# Altium footprint library keyswitches.pretty-2.PcbLib: 19 footprints (part 1 of 2)
Each footprint in its own frame and in the unit in brackets; x right, y up, seen from the top. Pads: shape width x height; smd on the part's side, far side on the other; paste and mask are expansions set on the pad; w line width, h text height; cw(c..) or ccw(c..) is an arc to the next point about the centre after c.
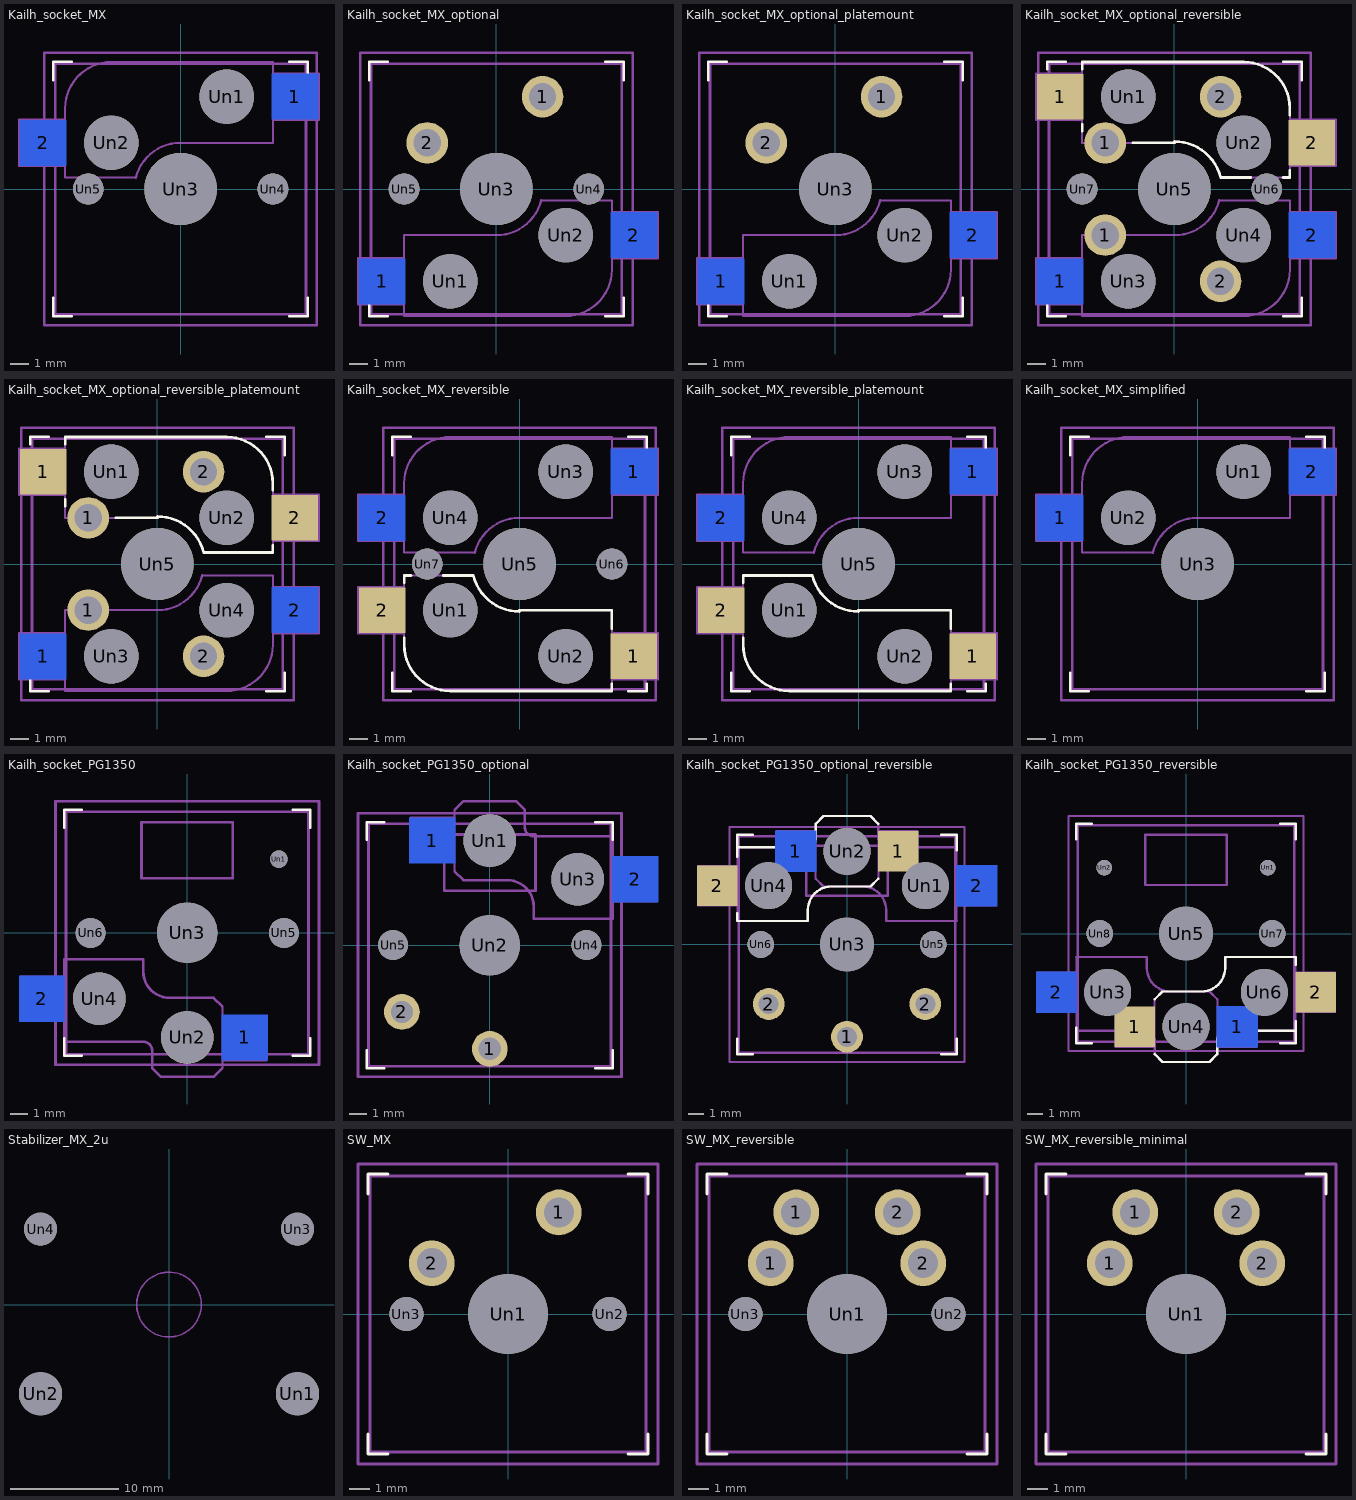
[diagram p0: the footprints below, top view; thin cyan lines are the x and y axes]

## Kailh_socket_MX [mm]
pads (7):
  rect 2.55x2.5 smd far side: 1(6.29,5.08) 2(-7.56,2.54)
  round 3 hole 3: Un1(2.54,5.08) Un2(-3.81,2.54)
  round 3.988 hole 3.988: Un3(0,0)
  round 1.702 hole 1.702: Un4(5.08,0) Un5(-5.08,0)
F.SilkS:
  lines w0.15: -7,-6 -7,-7 -6,-7 ; -7,6 -7,7 -6,7 ; 6,-7 7,-7 7,-6 ; 6,7 7,7 7,6
B.SilkS:
  lines w0.15: -6.35,1.016 -6.35,0.635 -5.969,0.635 ; -6.35,4.064 -6.35,4.445 cw(c-3.81,4.445) -3.81,6.985 5.08,6.985 5.08,6.604 ; -4.191,0.635 -2.464,0.635 ; -2.464,0.616 cw(c0,0) 0,2.54 5.08,2.54 5.08,3.556
B.Fab:
  lines w0.12: -6.35,1.27 -8.89,1.27 -8.89,3.81 -6.35,3.81 ; -2.54,0.635 -6.35,0.635 -6.35,4.445 cw(c-3.81,4.445) -3.81,6.985 5.08,6.985 5.08,2.54 0,2.54 ccw(c0,0) -2.464,0.616 ; 5.08,3.81 7.62,3.81 7.62,6.35 5.08,6.35
  text "'.Comment'" at 0.652,-0.937 h1
F.Fab:
  lines w0.15: -7.5,-7.5 7.5,-7.5 7.5,7.5 -7.5,7.5 -7.5,-7.5
Eco2.User:
  lines w0.15: -6.9,-6.9 6.9,-6.9 6.9,6.9 -6.9,6.9 -6.9,-6.9
3D body "Kailh Polia.step": height 15.25, standoff -3.3, extent -6.975,-7.823 6.975,7.777
3D body "Kaihl CPG151101S11.step": height 0.66, standoff -2.39, extent -7.69,0.865 6.45,6.755

## Kailh_socket_MX_optional [mil]
pads (9):
  rect 100.39x98.43 smd far side: 1(-247.64,-200) 2(297.64,-100)
  round 90 hole 59: 1(100,200) 2(-150,100)
  round 118.11 hole 118.11: Un1(-100,-200) Un2(150,-100)
  round 157 hole 157: Un3(0,0)
  round 67 hole 67: Un4(200,0) Un5(-200,0)
F.SilkS:
  lines w5.91: -275.59,-236.22 -275.59,-275.59 -236.22,-275.59 ; -275.59,236.22 -275.59,275.59 -236.22,275.59 ; 236.22,-275.59 275.59,-275.59 275.59,-236.22 ; 236.22,275.59 275.59,275.59 275.59,236.22
B.SilkS:
  lines w5.91: -200,-260 -200,-275 150,-275 ccw(c150,-175) 250,-175 250,-160 ; -200,-140 -200,-100 0,-100 ccw(c0,0) 97.01,-24.25 ; 100,-25 165,-25 ; 235,-25 250,-25 250,-40
  text "'.Designator'" at 206.64,-340.69 h39.37
B.Fab:
  lines w4.72: -200,-250 -300,-250 -300,-150 -200,-150 ; 97.01,-24.25 cw(c0,0) 0,-100 -200,-100 -200,-275 150,-275 ccw(c150,-175) 250,-175 250,-25 100,-25 ; 250,-150 350,-150 350,-50 250,-50
  text "'.Designator'" at 131.64,-215.69 h39.37
  text "'.Comment'" at 50.67,-336.88 h39.37
F.Fab:
  lines w5.91: -295.28,-295.28 295.28,-295.28 295.28,295.28 -295.28,295.28 -295.28,-295.28
  text "'.Designator'" at -56.64,-15.69 h39.37
Eco2.User:
  lines w5.91: -271.65,-271.65 271.65,-271.65 271.65,271.65 -271.65,271.65 -271.65,-271.65

## Kailh_socket_MX_optional_platemount [mm]
pads (7):
  rect 2.55x2.5 smd far side: 1(-6.29,-5.08) 2(7.56,-2.54)
  round 2.286 hole 1.499: 1(2.54,5.08) 2(-3.81,2.54)
  round 3 hole 3: Un1(-2.54,-5.08) Un2(3.81,-2.54)
  round 3.988 hole 3.988: Un3(0,0)
F.SilkS:
  lines w0.15: -7,-6 -7,-7 -6,-7 ; -7,6 -7,7 -6,7 ; 6,-7 7,-7 7,-6 ; 6,7 7,7 7,6
B.SilkS:
  lines w0.15: -5.08,-6.604 -5.08,-6.985 3.81,-6.985 ccw(c3.81,-4.445) 6.35,-4.445 6.35,-4.064 ; -5.08,-3.556 -5.08,-2.54 0,-2.54 ccw(c0,0) 2.464,-0.616 ; 2.5,-0.635 6.35,-0.635 6.35,-1.016
  text "'.Designator'" at 5.249,-8.653 h1
B.Fab:
  lines w0.12: -5.08,-6.35 -7.62,-6.35 -7.62,-3.81 -5.08,-3.81 ; 2.464,-0.616 cw(c0,0) 0,-2.54 -5.08,-2.54 -5.08,-6.985 3.81,-6.985 ccw(c3.81,-4.445) 6.35,-4.445 6.35,-0.635 2.54,-0.635 ; 6.35,-3.81 8.89,-3.81 8.89,-1.27 6.35,-1.27
  text "'.Designator'" at 3.344,-5.478 h1
  text "'.Comment'" at 1.287,-8.557 h1
F.Fab:
  lines w0.15: -7.5,-7.5 7.5,-7.5 7.5,7.5 -7.5,7.5 -7.5,-7.5
  text "'.Designator'" at -1.439,-0.398 h1
Eco2.User:
  lines w0.15: -6.9,-6.9 6.9,-6.9 6.9,6.9 -6.9,6.9 -6.9,-6.9

## Kailh_socket_MX_optional_reversible [mm]
pads (15):
  rect 2.55x2.5 smd far side: 1(-6.29,-5.08) 2(7.56,-2.54)
  rect 2.55x2.5 smd: 1(-6.29,5.08) 2(7.56,2.54)
  round 2.286 hole 1.499: 1(-3.81,-2.54) 1(-3.81,2.54) 2(2.54,-5.08) 2(2.54,5.08)
  round 3 hole 3: Un1(-2.54,5.08) Un2(3.81,2.54) Un3(-2.54,-5.08) Un4(3.81,-2.54)
  round 3.988 hole 3.988: Un5(0,0)
  round 1.702 hole 1.702: Un6(5.08,0) Un7(-5.08,0)
F.SilkS:
  lines w0.15: -7,-6 -7,-7 -6,-7 ; -7,6.604 -7,7 -6,7 ; -5.08,3.175 -5.08,3.556 ; -5.08,6.604 -5.08,6.985 3.81,6.985 cw(c3.81,4.445) 6.35,4.445 6.35,4.064 ; -2.286,2.54 0,2.54 ; 0,2.618 cw(c0,0) 2.54,0.635 4.191,0.635 ; 5.969,0.635 6.35,0.635 6.35,1.016 ; 6,-7 7,-7 7,-6 ; 6,7 7,7 7,6
B.SilkS:
  lines w0.15: -7,-6.604 -7,-7 -6,-7 ; -7,6 -7,7 -6,7 ; -5.08,-6.604 -5.08,-6.985 3.81,-6.985 ccw(c3.81,-4.445) 6.35,-4.445 6.35,-4.064 ; -5.08,-3.556 -5.08,-3.175 ; -2.286,-2.54 0,-2.54 ccw(c0,0) 2.464,-0.616 ; 2.54,-0.635 4.191,-0.635 ; 5.969,-0.635 6.35,-0.635 6.35,-1.016 ; 6,-7 7,-7 7,-6 ; 6,7 7,7 7,6
  text "'.Designator'" at 1.439,7.857 h1
B.Fab:
  lines w0.12: -5.08,-6.35 -7.62,-6.35 -7.62,-3.81 -5.08,-3.81 ; 2.464,-0.616 cw(c0,0) 0,-2.54 -5.08,-2.54 -5.08,-6.985 3.81,-6.985 ccw(c3.81,-4.445) 6.35,-4.445 6.35,-0.635 2.54,-0.635 ; 6.35,-3.81 8.89,-3.81 8.89,-1.27 6.35,-1.27
  lines w0.15: -7.5,-7.5 7.5,-7.5 7.5,7.5 -7.5,7.5 -7.5,-7.5
  text "'.Designator'" at 1.439,-5.478 h1
  text "'.Comment'" at 1.287,-8.557 h1
F.Fab:
  lines w0.12: -5.08,3.81 -7.62,3.81 -7.62,6.35 -5.08,6.35 ; 0,2.54 -5.08,2.54 -5.08,6.985 3.81,6.985 cw(c3.81,4.445) 6.35,4.445 6.35,0.635 2.54,0.635 ccw(c0,0) 0,2.618 ; 6.35,1.27 8.89,1.27 8.89,3.81 6.35,3.81
  lines w0.15: -7.5,-7.5 -7.5,7.5 7.5,7.5 7.5,-7.5 -7.5,-7.5
  text "'.Designator'" at -0.804,4.047 h1
Eco2.User:
  lines w0.15: -6.9,-6.9 6.9,-6.9 6.9,6.9 -6.9,6.9 -6.9,-6.9

## Kailh_socket_MX_optional_reversible_platemount [mm]
pads (13):
  rect 2.55x2.5 smd far side: 1(-6.29,-5.08) 2(7.56,-2.54)
  rect 2.55x2.5 smd: 1(-6.29,5.08) 2(7.56,2.54)
  round 2.286 hole 1.499: 1(-3.81,-2.54) 1(-3.81,2.54) 2(2.54,-5.08) 2(2.54,5.08)
  round 3 hole 3: Un1(-2.54,5.08) Un2(3.81,2.54) Un3(-2.54,-5.08) Un4(3.81,-2.54)
  round 3.988 hole 3.988: Un5(0,0)
F.SilkS:
  lines w0.15: -7,-6 -7,-7 -6,-7 ; -7,6.604 -7,7 -6,7 ; -5.08,3.175 -5.08,3.556 ; -5.08,6.604 -5.08,6.985 3.81,6.985 cw(c3.81,4.445) 6.35,4.445 6.35,4.064 ; -2.286,2.54 0,2.54 ; 0,2.618 cw(c0,0) 2.54,0.635 6.35,0.635 ; 5.969,0.635 6.35,0.635 ; 6,-7 7,-7 7,-6 ; 6,7 7,7 7,6 ; 6.35,1.016 6.35,0.635
B.SilkS:
  lines w0.15: -7,-6.604 -7,-7 -6,-7 ; -7,6 -7,7 -6,7 ; -5.08,-6.604 -5.08,-6.985 3.81,-6.985 ccw(c3.81,-4.445) 6.35,-4.445 6.35,-4.064 ; -5.08,-3.556 -5.08,-3.175 ; -2.286,-2.54 0,-2.54 ccw(c0,0) 2.464,-0.616 ; 2.54,-0.635 6.35,-0.635 ; 5.969,-0.635 6.35,-0.635 ; 6,-7 7,-7 7,-6 ; 6,7 7,7 7,6 ; 6.35,-1.016 6.35,-0.635
  text "'.Designator'" at 1.439,7.857 h1
B.Fab:
  lines w0.12: -5.08,-6.35 -7.62,-6.35 -7.62,-3.81 -5.08,-3.81 ; 2.464,-0.616 cw(c0,0) 0,-2.54 -5.08,-2.54 -5.08,-6.985 3.81,-6.985 ccw(c3.81,-4.445) 6.35,-4.445 6.35,-0.635 2.54,-0.635 ; 6.35,-3.81 8.89,-3.81 8.89,-1.27 6.35,-1.27
  lines w0.15: -7.5,-7.5 7.5,-7.5 7.5,7.5 -7.5,7.5 -7.5,-7.5
  text "'.Designator'" at 1.439,-5.478 h1
  text "'.Comment'" at 1.287,-8.557 h1
F.Fab:
  lines w0.12: -5.08,3.81 -7.62,3.81 -7.62,6.35 -5.08,6.35 ; 0,2.54 -5.08,2.54 -5.08,6.985 3.81,6.985 cw(c3.81,4.445) 6.35,4.445 6.35,0.635 2.54,0.635 ccw(c0,0) 0,2.618 ; 6.35,1.27 8.89,1.27 8.89,3.81 6.35,3.81
  lines w0.15: -7.5,-7.5 -7.5,7.5 7.5,7.5 7.5,-7.5 -7.5,-7.5
  text "'.Designator'" at -0.804,4.047 h1
Eco2.User:
  lines w0.15: -6.9,-6.9 6.9,-6.9 6.9,6.9 -6.9,6.9 -6.9,-6.9

## Kailh_socket_MX_reversible [mm]
pads (11):
  rect 2.55x2.5 smd: 1(6.29,-5.08) 2(-7.56,-2.54)
  rect 2.55x2.5 smd far side: 1(6.29,5.08) 2(-7.56,2.54)
  round 3 hole 3: Un1(-3.81,-2.54) Un2(2.54,-5.08) Un3(2.54,5.08) Un4(-3.81,2.54)
  round 3.988 hole 3.988: Un5(0,0)
  round 1.702 hole 1.702: Un6(5.08,0) Un7(-5.08,0)
F.SilkS:
  lines w0.15: -7,-6 -7,-7 -6,-7 ; -7,6 -7,7 -6,7 ; -6.35,-4.064 -6.35,-4.445 ccw(c-3.81,-4.445) -3.81,-6.985 5.08,-6.985 5.08,-6.604 ; -6.35,-1.016 -6.35,-0.635 -5.969,-0.635 ; -4.191,-0.635 -2.54,-0.635 ccw(c0,0) 0,-2.618 ; 0,-2.54 5.08,-2.54 5.08,-3.556 ; 6,-7 7,-7 7,-6.604 ; 6,7 7,7 7,6
B.SilkS:
  lines w0.15: -7,-6 -7,-7 -6,-7 ; -7,6 -7,7 -6,7 ; -6.35,1.016 -6.35,0.635 -5.969,0.635 ; -6.35,4.064 -6.35,4.445 cw(c-3.81,4.445) -3.81,6.985 5.08,6.985 5.08,6.604 ; -4.191,0.635 -2.54,0.635 ; -2.461,0.628 cw(c0,0) 0,2.54 5.08,2.54 5.08,3.556 ; 6,-7 7,-7 7,-6 ; 6,7 7,7 7,6.604
  text "'.Designator'" at 1.439,7.857 h1
B.Fab:
  lines w0.12: -6.35,1.27 -8.89,1.27 -8.89,3.81 -6.35,3.81 ; -2.54,0.635 -6.35,0.635 -6.35,4.445 cw(c-3.81,4.445) -3.81,6.985 5.08,6.985 5.08,2.54 0,2.54 ccw(c0,0) -2.464,0.616 ; 5.08,3.81 7.62,3.81 7.62,6.35 5.08,6.35
  lines w0.15: -7.5,-7.5 7.5,-7.5 7.5,7.5 -7.5,7.5 -7.5,-7.5
  text "'.Comment'" at 1.287,-8.557 h1
  text "'.Designator'" at 0.169,4.682 h1
F.Fab:
  lines w0.12: -6.35,-3.81 -8.89,-3.81 -8.89,-1.27 -6.35,-1.27 ; 0,-2.618 cw(c0,0) -2.54,-0.635 -6.35,-0.635 -6.35,-4.445 ccw(c-3.81,-4.445) -3.81,-6.985 5.08,-6.985 5.08,-2.54 0,-2.54 ; 5.08,-6.35 7.62,-6.35 7.62,-3.81 5.08,-3.81
  lines w0.15: -7.5,-7.5 -7.5,7.5 7.5,7.5 7.5,-7.5 -7.5,-7.5
  text "'.Designator'" at -2.709,-5.478 h1
Eco2.User:
  lines w0.15: -6.9,-6.9 6.9,-6.9 6.9,6.9 -6.9,6.9 -6.9,-6.9

## Kailh_socket_MX_reversible_platemount [mm]
pads (9):
  rect 2.55x2.5 smd: 1(6.29,-5.08) 2(-7.56,-2.54)
  rect 2.55x2.5 smd far side: 1(6.29,5.08) 2(-7.56,2.54)
  round 3 hole 3: Un1(-3.81,-2.54) Un2(2.54,-5.08) Un3(2.54,5.08) Un4(-3.81,2.54)
  round 3.988 hole 3.988: Un5(0,0)
F.SilkS:
  lines w0.15: -7,-6 -7,-7 -6,-7 ; -7,6 -7,7 -6,7 ; -6.35,-4.064 -6.35,-4.445 ccw(c-3.81,-4.445) -3.81,-6.985 5.08,-6.985 5.08,-6.604 ; -6.35,-1.016 -6.35,-0.635 ; -5.969,-0.635 -6.35,-0.635 ; 0,-2.618 cw(c0,0) -2.54,-0.635 -6.35,-0.635 ; 0,-2.54 5.08,-2.54 5.08,-3.556 ; 6,-7 7,-7 7,-6.604 ; 6,7 7,7 7,6
B.SilkS:
  lines w0.15: -7,-6 -7,-7 -6,-7 ; -7,6 -7,7 -6,7 ; -6.35,1.016 -6.35,0.635 ; -6.35,4.064 -6.35,4.445 cw(c-3.81,4.445) -3.81,6.985 5.08,6.985 5.08,6.604 ; -5.969,0.635 -6.35,0.635 ; -2.54,0.635 -6.35,0.635 ; -2.461,0.628 cw(c0,0) 0,2.54 5.08,2.54 5.08,3.556 ; 6,-7 7,-7 7,-6 ; 6,7 7,7 7,6.604
  text "'.Designator'" at 1.439,7.857 h1
B.Fab:
  lines w0.12: -6.35,1.27 -8.89,1.27 -8.89,3.81 -6.35,3.81 ; -2.54,0.635 -6.35,0.635 -6.35,4.445 cw(c-3.81,4.445) -3.81,6.985 5.08,6.985 5.08,2.54 0,2.54 ccw(c0,0) -2.464,0.616 ; 5.08,3.81 7.62,3.81 7.62,6.35 5.08,6.35
  lines w0.15: -7.5,-7.5 7.5,-7.5 7.5,7.5 -7.5,7.5 -7.5,-7.5
  text "'.Comment'" at 1.287,-8.557 h1
  text "'.Designator'" at 0.169,4.682 h1
F.Fab:
  lines w0.12: -6.35,-3.81 -8.89,-3.81 -8.89,-1.27 -6.35,-1.27 ; 0,-2.618 cw(c0,0) -2.54,-0.635 -6.35,-0.635 -6.35,-4.445 ccw(c-3.81,-4.445) -3.81,-6.985 5.08,-6.985 5.08,-2.54 0,-2.54 ; 5.08,-6.35 7.62,-6.35 7.62,-3.81 5.08,-3.81
  lines w0.15: -7.5,-7.5 -7.5,7.5 7.5,7.5 7.5,-7.5 -7.5,-7.5
  text "'.Designator'" at -2.709,-5.478 h1
Eco2.User:
  lines w0.15: -6.9,-6.9 6.9,-6.9 6.9,6.9 -6.9,6.9 -6.9,-6.9

## Kailh_socket_MX_simplified [mm]
pads (5):
  rect 2.55x2.5 smd far side: 1(-7.56,2.54) 2(6.29,5.08)
  round 3 hole 3: Un1(2.54,5.08) Un2(-3.81,2.54)
  round 3.988 hole 3.988: Un3(0,0)
F.SilkS:
  lines w0.15: -7,-6 -7,-7 -6,-7 ; -7,6 -7,7 -6,7 ; 6,-7 7,-7 7,-6 ; 6,7 7,7 7,6
B.SilkS:
  lines w0.15: -6.35,1.016 -6.35,0.635 -5.969,0.635 -2.464,0.635 ; -6.35,4.064 -6.35,4.445 cw(c-3.81,4.445) -3.81,6.985 5.08,6.985 5.08,6.604 ; -2.464,0.616 cw(c0,0) 0,2.54 5.08,2.54 5.08,3.556
B.Fab:
  lines w0.12: -6.35,1.27 -8.89,1.27 -8.89,3.81 -6.35,3.81 ; -2.54,0.635 -6.35,0.635 -6.35,4.445 cw(c-3.81,4.445) -3.81,6.985 5.08,6.985 5.08,2.54 0,2.54 ccw(c0,0) -2.464,0.616 ; 5.08,3.81 7.62,3.81 7.62,6.35 5.08,6.35
  text "'.Designator'" at 0.804,4.047 h1
  text "'.Comment'" at 0.652,-0.937 h1
F.Fab:
  lines w0.15: -7.5,-7.5 7.5,-7.5 7.5,7.5 -7.5,7.5 -7.5,-7.5
Eco2.User:
  lines w0.15: -6.9,-6.9 6.9,-6.9 6.9,6.9 -6.9,6.9 -6.9,-6.9

## Kailh_socket_PG1350 [mm]
pads (8):
  rect 2.6x2.6 smd far side: 1(3.275,-5.95) 2(-8.275,-3.75)
  round 0.991 hole 0.991: Un1(5.22,4.2)
  round 3 hole 3: Un2(0,-5.95) Un4(-5,-3.75)
  round 3.429 hole 3.429: Un3(0,0)
  round 1.702 hole 1.702: Un5(5.5,0) Un6(-5.5,0)
F.SilkS:
  lines w0.15: -7,-6 -7,-7 -6,-7 ; -7,6 -7,7 -6,7 ; 6,7 7,7 7,6 ; 7,-6 7,-7 ; 7,-7 6,-7 7,-7
B.SilkS:
  lines w0.15: -7,-5.6 -7,-6.2 -2.5,-6.2 cw(c-2.5,-6.7) -2,-6.7 -2,-7.7 -1.5,-8.2 1.5,-8.2 2,-7.7 ; -7,-2 -7,-1.5 -2.5,-1.5 -2.5,-2.2 ccw(c-1,-2.2) -1,-3.7 1.5,-3.7 2,-4.2
B.Fab:
  lines w0.12: -7,-6.2 -7,-1.5 ; -7,-5 -9.5,-5 -9.5,-2.5 -7,-2.5 ; 2,-7.7 2,-4.25 ; 2,-7.25 4.5,-7.25 4.5,-4.75 2,-4.75
  lines w0.15: -7,-6.2 -2.5,-6.2 cw(c-2.5,-6.7) -2,-6.7 -2,-7.7 -1.5,-8.2 1.5,-8.2 2,-7.7 ; -7,-1.5 -2.5,-1.5 -2.5,-2.2 ccw(c-1,-2.2) -1,-3.7 1.5,-3.7 2,-4.2
  text "'.Comment'" at 0.287,-9.302 h1
  text "'.Designator'" at -1.561,-5.398 h1
F.Fab:
  lines w0.15: -7.5,-7.5 7.5,-7.5 7.5,7.5 -7.5,7.5 -7.5,-7.5
Eco2.User:
  lines w0.15: -6.9,-6.9 6.9,-6.9 6.9,6.9 -6.9,6.9 -6.9,-6.9 ; -2.6,3.1 2.6,3.1 2.6,6.3 -2.6,6.3 -2.6,3.1

## Kailh_socket_PG1350_optional [mm]
pads (9):
  rect 2.6x2.6 smd far side: 1(-3.275,5.95) 2(8.275,3.75)
  round 2.032 hole 1.27: 1(0,-5.9) 2(-5,-3.8)
  round 3 hole 3: Un1(0,5.95) Un3(5,3.75)
  round 3.429 hole 3.429: Un2(0,0)
  round 1.702 hole 1.702: Un4(5.5,0) Un5(-5.5,0)
F.SilkS:
  lines w0.15: -7,-6 -7,-7 -6,-7 ; -7,6 -7,7 -6,7 ; 6,-7 7,-7 7,-6 ; 6,7 7,7 7,6
B.SilkS:
  lines w0.15: -2,4.2 -1.5,3.7 1,3.7 cw(c1,2.2) 2.5,2.2 2.5,1.5 7,1.5 7,2 ; -2,7.7 -1.5,8.2 1.5,8.2 2,7.7 2,6.7 ccw(c2.5,6.7) 2.5,6.2 7,6.2 7,5.6
  text "'.Designator'" at 5.884,7.222 h1
B.Fab:
  lines w0.12: -2,4.25 -2,7.7 ; -2,4.75 -4.5,4.75 -4.5,7.25 -2,7.25 ; 7,1.5 7,6.2 ; 7,2.5 9.5,2.5 9.5,5 7,5
  lines w0.15: -2,4.2 -1.5,3.7 1,3.7 cw(c1,2.2) 2.5,2.2 2.5,1.5 7,1.5 ; -2,7.7 -1.5,8.2 1.5,8.2 2,7.7 2,6.7 ccw(c2.5,6.7) 2.5,6.2 7,6.2
  text "'.Designator'" at 4.439,4.602 h1
  text "'.Comment'" at 3.827,0.333 h1
F.Fab:
  lines w0.15: -7.5,-7.5 7.5,-7.5 7.5,7.5 -7.5,7.5 -7.5,-7.5
  text "'.Designator'" at -1.439,-0.398 h1
Eco2.User:
  lines w0.15: -6.9,-6.9 6.9,-6.9 6.9,6.9 -6.9,6.9 -6.9,-6.9 ; -2.6,3.1 2.6,3.1 2.6,6.3 -2.6,6.3 -2.6,3.1

## Kailh_socket_PG1350_optional_reversible [mm]
pads (13):
  rect 2.6x2.6 smd far side: 1(-3.275,5.95) 2(8.275,3.75)
  round 2.032 hole 1.27: 1(0,-5.9) 2(-5,-3.8) 2(5,-3.8)
  rect 2.6x2.6 smd: 1(3.275,5.95) 2(-8.275,3.75)
  round 3 hole 3: Un1(5,3.75) Un2(0,5.95) Un4(-5,3.75)
  round 3.429 hole 3.429: Un3(0,0)
  round 1.702 hole 1.702: Un5(5.5,0) Un6(-5.5,0)
F.SilkS:
  lines w0.15: -7,-6 -7,-7 -6,-7 ; -7,2 -7,1.5 -2.5,1.5 -2.5,2.2 cw(c-1,2.2) -1,3.7 1.5,3.7 2,4.2 ; -7,5.6 -7,6.2 -2.5,6.2 ccw(c-2.5,6.7) -2,6.7 -2,7.7 -1.5,8.2 1.5,8.2 2,7.7 ; -7,6 -7,7 -6,7 ; 6,-7 7,-7 7,-6 ; 6,7 7,7 7,6
B.SilkS:
  lines w0.15: -7,-6 -7,-7 -6,-7 ; -7,6 -7,7 -6,7 ; -2,4.2 -1.5,3.7 1,3.7 cw(c1,2.2) 2.5,2.2 2.5,1.5 7,1.5 7,2 ; -2,7.7 -1.5,8.2 1.5,8.2 2,7.7 2,6.7 ccw(c2.5,6.7) 2.5,6.2 7,6.2 7,5.6 ; 6,-7 7,-7 7,-6 ; 6,7 7,7 7,6
  text "'.Designator'" at 1.439,8.492 h1
B.Fab:
  lines w0.12: -2,4.25 -2,7.7 ; -2,4.75 -4.5,4.75 -4.5,7.25 -2,7.25 ; 7,1.5 7,6.2 ; 7,2.5 9.5,2.5 9.5,5 7,5
  lines w0.15: -2,4.2 -1.5,3.7 1,3.7 cw(c1,2.2) 2.5,2.2 2.5,1.5 7,1.5 ; -2,7.7 -1.5,8.2 1.5,8.2 2,7.7 2,6.7 ccw(c2.5,6.7) 2.5,6.2 7,6.2 ; -7.5,-7.5 7.5,-7.5 7.5,7.5 -7.5,7.5 -7.5,-7.5
  text "'.Designator'" at 4.439,4.602 h1
  text "'.Comment'" at 1.287,-8.557 h1
F.Fab:
  lines w0.12: -7,1.5 -7,6.2 ; -7,2.5 -9.5,2.5 -9.5,5 -7,5 ; 2,4.25 2,7.7 ; 2,4.75 4.5,4.75 4.5,7.25 2,7.25
  lines w0.15: -7,1.5 -2.5,1.5 -2.5,2.2 cw(c-1,2.2) -1,3.7 1.5,3.7 2,4.2 ; -7,6.2 -2.5,6.2 ccw(c-2.5,6.7) -2,6.7 -2,7.7 -1.5,8.2 1.5,8.2 2,7.7 ; -7.5,-7.5 7.5,-7.5 7.5,7.5 -7.5,7.5 -7.5,-7.5
  text "'.Designator'" at -3.689,4.352 h1
Eco2.User:
  lines w0.15: -6.9,-6.9 6.9,-6.9 6.9,6.9 -6.9,6.9 -6.9,-6.9 ; -2.6,3.1 2.6,3.1 2.6,6.3 -2.6,6.3 -2.6,3.1

## Kailh_socket_PG1350_reversible [mm]
pads (12):
  rect 2.6x2.6 smd: 1(-3.275,-5.95) 2(8.275,-3.75)
  rect 2.6x2.6 smd far side: 1(3.275,-5.95) 2(-8.275,-3.75)
  round 0.991 hole 0.991: Un1(5.22,4.2) Un2(-5.22,4.2)
  round 3 hole 3: Un3(-5,-3.75) Un4(0,-5.95) Un6(5,-3.75)
  round 3.429 hole 3.429: Un5(0,0)
  round 1.702 hole 1.702: Un7(5.5,0) Un8(-5.5,0)
F.SilkS:
  lines w0.15: -7,-6 -7,-7 -6,-7 ; -7,6 -7,7 -6,7 ; -2,-7.7 -1.5,-8.2 1.5,-8.2 2,-7.7 2,-6.7 cw(c2.5,-6.7) 2.5,-6.2 7,-6.2 7,-5.6 ; -2,-4.2 -1.5,-3.7 1,-3.7 ccw(c1,-2.2) 2.5,-2.2 2.5,-1.5 7,-1.5 7,-2 ; 6,-7 7,-7 7,-6 ; 6,7 7,7 7,6
B.SilkS:
  lines w0.15: -7,-6 -7,-7 -6,-7 ; -7,-5.6 -7,-6.2 -2.5,-6.2 cw(c-2.5,-6.7) -2,-6.7 -2,-7.7 -1.5,-8.2 1.5,-8.2 2,-7.7 ; -7,-2 -7,-1.5 -2.5,-1.5 -2.5,-2.2 ccw(c-1,-2.2) -1,-3.7 1.5,-3.7 2,-4.2 ; -7,6 -7,7 -6,7 ; 6,-7 7,-7 7,-6 ; 6,7 7,7 7,6
  text "'.Designator'" at -3.006,1.507 h1
B.Fab:
  lines w0.12: -7,-6.2 -7,-1.5 ; -7,-5 -9.5,-5 -9.5,-2.5 -7,-2.5 ; 2,-7.7 2,-4.25 ; 2,-7.25 4.5,-7.25 4.5,-4.75 2,-4.75
  lines w0.15: -7,-6.2 -2.5,-6.2 cw(c-2.5,-6.7) -2,-6.7 -2,-7.7 -1.5,-8.2 1.5,-8.2 2,-7.7 ; -7,-1.5 -2.5,-1.5 -2.5,-2.2 ccw(c-1,-2.2) -1,-3.7 1.5,-3.7 2,-4.2 ; -7.5,-7.5 7.5,-7.5 7.5,7.5 -7.5,7.5 -7.5,-7.5
  text "'.Designator'" at -1.561,-5.398 h1
  text "'.Comment'" at 1.287,-9.192 h1
F.Fab:
  lines w0.12: -2,-7.7 -2,-4.25 ; -2,-7.25 -4.5,-7.25 -4.5,-4.75 -2,-4.75 ; 7,-6.2 7,-1.5 ; 7,-5 9.5,-5 9.5,-2.5 7,-2.5
  lines w0.15: -2,-7.7 -1.5,-8.2 1.5,-8.2 2,-7.7 2,-6.7 cw(c2.5,-6.7) 2.5,-6.2 7,-6.2 ; -2,-4.2 -1.5,-3.7 1,-3.7 ccw(c1,-2.2) 2.5,-2.2 2.5,-1.5 7,-1.5 ; -7.5,-7.5 7.5,-7.5 7.5,7.5 -7.5,7.5 -7.5,-7.5
  text "'.Designator'" at 1.561,-5.398 h1
Eco2.User:
  lines w0.15: -6.9,-6.9 6.9,-6.9 6.9,6.9 -6.9,6.9 -6.9,-6.9 ; -2.6,3.1 2.6,3.1 2.6,6.3 -2.6,6.3 -2.6,3.1

## Stabilizer_MX_2u [mil]
pads (4):
  round 157 hole 157: Un1(468.5,-325) Un2(-468.5,-325)
  round 120 hole 120: Un3(468.5,275) Un4(-468.5,275)
Cmts.User:
  circle w5.91: c0,0 r118.11

## SW_MX [mil]
pads (5):
  round 90 hole 59: 1(100,200) 2(-150,100)
  round 157 hole 157: Un1(0,0)
  round 67 hole 67: Un2(200,0) Un3(-200,0)
F.SilkS:
  lines w5.91: -275.59,-236.22 -275.59,-275.59 -236.22,-275.59 ; -275.59,236.22 -275.59,275.59 -236.22,275.59 ; 236.22,-275.59 275.59,-275.59 275.59,-236.22 ; 236.22,275.59 275.59,275.59 275.59,236.22
F.Fab:
  lines w5.91: -295.28,-295.28 295.28,-295.28 295.28,295.28 -295.28,295.28 -295.28,-295.28
  text "'.Designator'" at -56.64,-15.69 h39.37
Eco2.User:
  lines w5.91: -271.65,-271.65 271.65,-271.65 271.65,271.65 -271.65,271.65 -271.65,-271.65

## SW_MX_reversible [mil]
pads (7):
  round 90 hole 59: 1(-150,100) 1(-100,200) 2(100,200) 2(150,100)
  round 157 hole 157: Un1(0,0)
  round 67 hole 67: Un2(200,0) Un3(-200,0)
F.SilkS:
  lines w5.91: -275.59,-236.22 -275.59,-275.59 -236.22,-275.59 ; -275.59,236.22 -275.59,275.59 -236.22,275.59 ; 236.22,-275.59 275.59,-275.59 275.59,-236.22 ; 236.22,275.59 275.59,275.59 275.59,236.22
B.SilkS:
  lines w5.91: -275.59,-236.22 -275.59,-275.59 -236.22,-275.59 ; -275.59,236.22 -275.59,275.59 -236.22,275.59 ; 236.22,-275.59 275.59,-275.59 275.59,-236.22 ; 236.22,275.59 275.59,275.59 275.59,236.22
  text "'.Designator'" at 56.64,309.31 h39.37
B.Fab:
  lines w5.91: -295.28,-295.28 295.28,-295.28 295.28,295.28 -295.28,295.28 -295.28,-295.28
  text "'.Comment'" at 50.67,-336.88 h39.37
  text "'.Designator'" at 56.64,-15.69 h39.37
F.Fab:
  lines w5.91: -295.28,-295.28 295.28,-295.28 295.28,295.28 -295.28,295.28 -295.28,-295.28
  text "'.Designator'" at -56.64,-15.69 h39.37
Eco2.User:
  lines w5.91: -271.65,-271.65 271.65,-271.65 271.65,271.65 -271.65,271.65 -271.65,-271.65

## SW_MX_reversible_minimal [mil]
pads (5):
  round 90 hole 59: 1(-150,100) 1(-100,200) 2(100,200) 2(150,100)
  round 157 hole 157: Un1(0,0)
F.SilkS:
  lines w5.91: -275.59,-236.22 -275.59,-275.59 -236.22,-275.59 ; -275.59,236.22 -275.59,275.59 -236.22,275.59 ; 236.22,-275.59 275.59,-275.59 275.59,-236.22 ; 236.22,275.59 275.59,275.59 275.59,236.22
B.SilkS:
  lines w5.91: -275.59,-236.22 -275.59,-275.59 -236.22,-275.59 ; -275.59,236.22 -275.59,275.59 -236.22,275.59 ; 236.22,-275.59 275.59,-275.59 275.59,-236.22 ; 236.22,275.59 275.59,275.59 275.59,236.22
  text "'.Designator'" at 56.64,104.31 h39.37
B.Fab:
  lines w5.91: -295.28,-295.28 -295.28,295.28 295.28,295.28 295.28,-295.28 -295.28,-295.28
  text "'.Comment'" at 50.67,-336.88 h39.37
  text "'.Designator'" at 56.64,-15.69 h39.37
F.Fab:
  lines w5.91: -295.28,-295.28 295.28,-295.28 295.28,295.28 -295.28,295.28 -295.28,-295.28
  text "'.Designator'" at -56.64,-15.69 h39.37
Eco2.User:
  lines w5.91: -271.65,-271.65 271.65,-271.65 271.65,271.65 -271.65,271.65 -271.65,-271.65